# Altium integrated library Microchip PIC16 Part 2.IntLib: 1569 symbols (part 9 of 56)
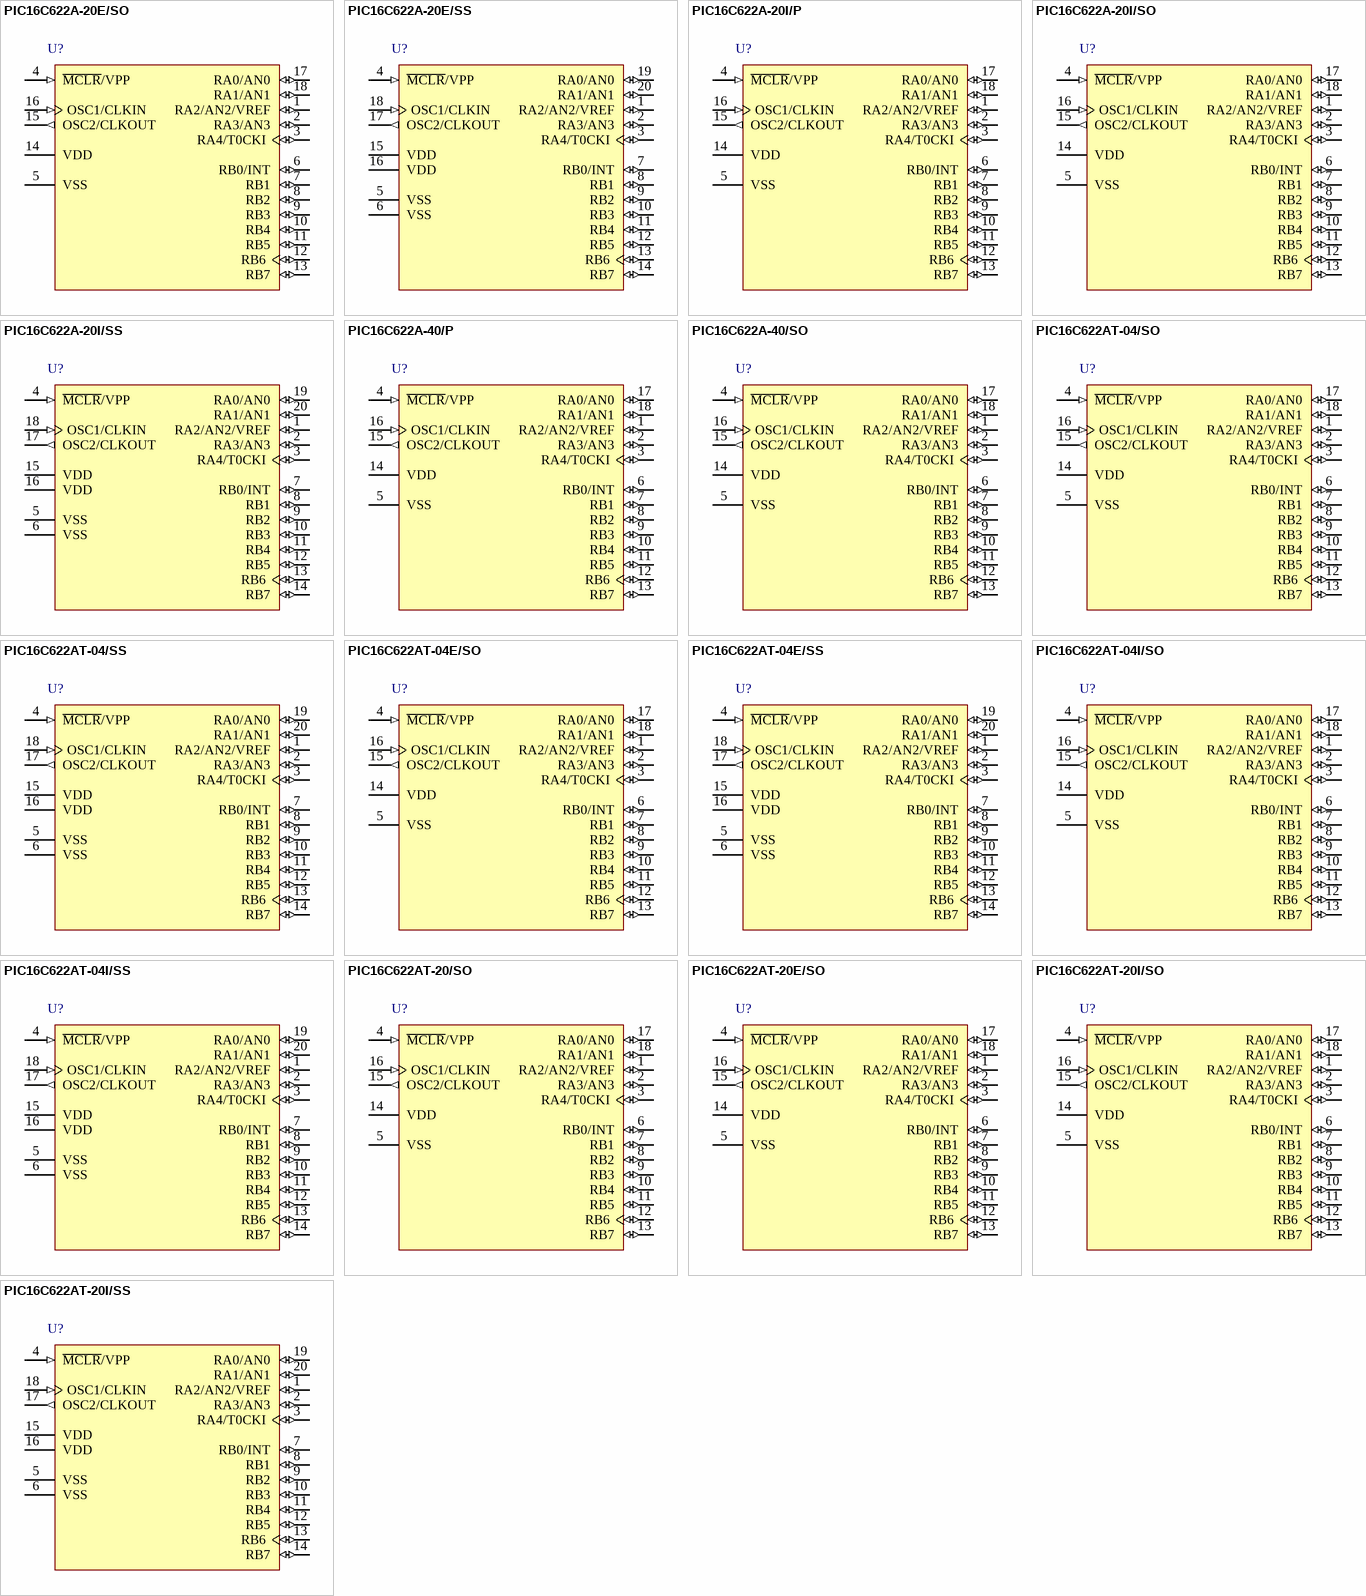
[diagram p133: symbols PIC16C622A-20E/SO to PIC16C622AT-20I/SS]

## PIC16C622AT-04I/SO
designator U?
EPROM-Based 8-Bit CMOS Microcontroller, 128 Bytes RAM, 13 I/O pins, 18-Pin SOIC, 3.0 to 5.5V Supply Range, Industrial Temperature, Tape and Reel; Manufacturer: Microchip; PartNumber: PIC16C622AT-04I/SO; DatasheetVersion: revJ, May-2003; PackageVersion: revBB, Aug-2009; PackageReference: SOIC-SO18; PackageDescription: 18-Lead Plastic Small Outline (SO) - Wide 7.50mm Body [SOIC]; Supplier 1: Digi-Key; Supplier Part Number 1: PIC16C622AT-04ISO-ND; Supplier 2: Mouser; Supplier Part Number 2: 579-16C622AT-04I/SO; Code_JEDEC: MS-013; ComponentLink1Description: Manufacturer URL; ComponentLink1URL: http://www.microchip.com/; ComponentLink2Description: Datasheet; ComponentLink2URL: http://ww1.microchip.com/downloads/en/DeviceDoc/30235j.pdf; ComponentLink3Description: Package Specification; ComponentLink3URL: http://www.microchip.com/stellent/groups/techpub_sg/documents/packagingspec/en012702.pdf
footprint SOIC-SO18_N (SOIC, 18-Leads, Body 11.5x7.5mm, Pitch 1.27mm, IPC Medium Density)
footprint SOIC-SO18_L (SOIC, 18-Leads, Body 11.5x7.5mm, Pitch 1.27mm, IPC High Density)
footprint SOIC-SO18_M (SOIC, 18-Leads, Body 11.5x7.5mm, Pitch 1.27mm, IPC Low Density)
pins: 1 RA2/AN2/VREF (io), 2 RA3/AN3 (io), 3 RA4/T0CKI (io), 4 ~{MCLR}/VPP (in), 5 VSS (power), 6 RB0/INT (io), 7 RB1 (io), 8 RB2 (io), 9 RB3 (io), 10 RB4 (io), 11 RB5 (io), 12 RB6 (io), 13 RB7 (io), 14 VDD (power), 15 OSC2/CLKOUT (out), 16 OSC1/CLKIN (in), 17 RA0/AN0 (io), 18 RA1/AN1 (io)

## PIC16C622AT-04I/SS
designator U?
EPROM-Based 8-Bit CMOS Microcontroller, 128 Bytes RAM, 13 I/O pins, 20-Pin SSOP, 3.0 to 5.5V Supply Range, Industrial Temperature, Tape and Reel; Manufacturer: Microchip; PartNumber: PIC16C622AT-04I/SS; DatasheetVersion: revJ, May-2003; PackageVersion: revBB, Aug-2009; PackageReference: SSOP-SS20; PackageDescription: 20-Lead Plastic Shrink Small Outline (SS) - 5.3mm Body [SSOP]; Supplier 1: Digi-Key; Supplier Part Number 1: PIC16C622AT-04ISS-ND; Supplier 2: Mouser; Supplier Part Number 2: 579-16C622AT-04I/SS; Code_JEDEC: MO-150; ComponentLink1Description: Manufacturer URL; ComponentLink1URL: http://www.microchip.com/; ComponentLink2Description: Datasheet; ComponentLink2URL: http://ww1.microchip.com/downloads/en/DeviceDoc/30235j.pdf; ComponentLink3Description: Package Specification; ComponentLink3URL: http://www.microchip.com/stellent/groups/techpub_sg/documents/packagingspec/en012702.pdf
footprint SSOP-SS20_N (SOP, 20-Leads, Body 7.2x5.2mm, Pitch 0.65mm, IPC Medium Density)
footprint SSOP-SS20_L (SOP, 20-Leads, Body 7.2x5.2mm, Pitch 0.65mm, IPC High Density)
footprint SSOP-SS20_M (SOP, 20-Leads, Body 7.2x5.2mm, Pitch 0.65mm, IPC Low Density)
pins: 1 RA2/AN2/VREF (io), 2 RA3/AN3 (io), 3 RA4/T0CKI (io), 4 ~{MCLR}/VPP (in), 5 VSS (power), 6 VSS (power), 7 RB0/INT (io), 8 RB1 (io), 9 RB2 (io), 10 RB3 (io), 11 RB4 (io), 12 RB5 (io), 13 RB6 (io), 14 RB7 (io), 15 VDD (power), 16 VDD (power), 17 OSC2/CLKOUT (out), 18 OSC1/CLKIN (in), 19 RA0/AN0 (io), 20 RA1/AN1 (io)

## PIC16C622AT-20/SO
designator U?
EPROM-Based 8-Bit CMOS Microcontroller, 128 Bytes RAM, 13 I/O pins, 18-Pin SOIC, 4.5 to 5.5V Supply Range, Commercial Temperature, Tape and Reel; Manufacturer: Microchip; PartNumber: PIC16C622AT-20/SO; DatasheetVersion: revJ, May-2003; PackageVersion: revBB, Aug-2009; PackageReference: SOIC-SO18; PackageDescription: 18-Lead Plastic Small Outline (SO) - Wide 7.50mm Body [SOIC]; Supplier 1: Digi-Key; Supplier Part Number 1: PIC16C622AT-20/SO-ND; Supplier 2: Mouser; Supplier Part Number 2: 579-16C622AT-20/SO; Code_JEDEC: MS-013; ComponentLink1Description: Manufacturer URL; ComponentLink1URL: http://www.microchip.com/; ComponentLink2Description: Datasheet; ComponentLink2URL: http://ww1.microchip.com/downloads/en/DeviceDoc/30235j.pdf; ComponentLink3Description: Package Specification; ComponentLink3URL: http://www.microchip.com/stellent/groups/techpub_sg/documents/packagingspec/en012702.pdf
footprint SOIC-SO18_N (SOIC, 18-Leads, Body 11.5x7.5mm, Pitch 1.27mm, IPC Medium Density)
footprint SOIC-SO18_L (SOIC, 18-Leads, Body 11.5x7.5mm, Pitch 1.27mm, IPC High Density)
footprint SOIC-SO18_M (SOIC, 18-Leads, Body 11.5x7.5mm, Pitch 1.27mm, IPC Low Density)
pins: 1 RA2/AN2/VREF (io), 2 RA3/AN3 (io), 3 RA4/T0CKI (io), 4 ~{MCLR}/VPP (in), 5 VSS (power), 6 RB0/INT (io), 7 RB1 (io), 8 RB2 (io), 9 RB3 (io), 10 RB4 (io), 11 RB5 (io), 12 RB6 (io), 13 RB7 (io), 14 VDD (power), 15 OSC2/CLKOUT (out), 16 OSC1/CLKIN (in), 17 RA0/AN0 (io), 18 RA1/AN1 (io)

## PIC16C622AT-20E/SO
designator U?
EPROM-Based 8-Bit CMOS Microcontroller, 128 Bytes RAM, 13 I/O pins, 18-Pin SOIC, 4.5 to 5.5V Supply Range, Extended Temperature, Tape and Reel; Manufacturer: Microchip; PartNumber: PIC16C622AT-20E/SO; DatasheetVersion: revJ, May-2003; PackageVersion: revBB, Aug-2009; PackageReference: SOIC-SO18; PackageDescription: 18-Lead Plastic Small Outline (SO) - Wide 7.50mm Body [SOIC]; Supplier 1: Digi-Key; Supplier Part Number 1: PIC16C622AT-20ESO-ND; Supplier 2: Mouser; Supplier Part Number 2: 579-16C622AT-20E/SO; Code_JEDEC: MS-013; ComponentLink1Description: Manufacturer URL; ComponentLink1URL: http://www.microchip.com/; ComponentLink2Description: Datasheet; ComponentLink2URL: http://ww1.microchip.com/downloads/en/DeviceDoc/30235j.pdf; ComponentLink3Description: Package Specification; ComponentLink3URL: http://www.microchip.com/stellent/groups/techpub_sg/documents/packagingspec/en012702.pdf
footprint SOIC-SO18_N (SOIC, 18-Leads, Body 11.5x7.5mm, Pitch 1.27mm, IPC Medium Density)
footprint SOIC-SO18_L (SOIC, 18-Leads, Body 11.5x7.5mm, Pitch 1.27mm, IPC High Density)
footprint SOIC-SO18_M (SOIC, 18-Leads, Body 11.5x7.5mm, Pitch 1.27mm, IPC Low Density)
pins: 1 RA2/AN2/VREF (io), 2 RA3/AN3 (io), 3 RA4/T0CKI (io), 4 ~{MCLR}/VPP (in), 5 VSS (power), 6 RB0/INT (io), 7 RB1 (io), 8 RB2 (io), 9 RB3 (io), 10 RB4 (io), 11 RB5 (io), 12 RB6 (io), 13 RB7 (io), 14 VDD (power), 15 OSC2/CLKOUT (out), 16 OSC1/CLKIN (in), 17 RA0/AN0 (io), 18 RA1/AN1 (io)

## PIC16C622AT-20I/SO
designator U?
EPROM-Based 8-Bit CMOS Microcontroller, 128 Bytes RAM, 13 I/O pins, 18-Pin SOIC, 4.5 to 5.5V Supply Range, Industrial Temperature, Tape and Reel; Manufacturer: Microchip; PartNumber: PIC16C622AT-20I/SO; DatasheetVersion: revJ, May-2003; PackageVersion: revBB, Aug-2009; PackageReference: SOIC-SO18; PackageDescription: 18-Lead Plastic Small Outline (SO) - Wide 7.50mm Body [SOIC]; Supplier 1: Digi-Key; Supplier Part Number 1: PIC16C622AT-20ISO-ND; Supplier 2: Mouser; Supplier Part Number 2: 579-16C622AT-20I/SO; Code_JEDEC: MS-013; ComponentLink1Description: Manufacturer URL; ComponentLink1URL: http://www.microchip.com/; ComponentLink2Description: Datasheet; ComponentLink2URL: http://ww1.microchip.com/downloads/en/DeviceDoc/30235j.pdf; ComponentLink3Description: Package Specification; ComponentLink3URL: http://www.microchip.com/stellent/groups/techpub_sg/documents/packagingspec/en012702.pdf
footprint SOIC-SO18_N (SOIC, 18-Leads, Body 11.5x7.5mm, Pitch 1.27mm, IPC Medium Density)
footprint SOIC-SO18_L (SOIC, 18-Leads, Body 11.5x7.5mm, Pitch 1.27mm, IPC High Density)
footprint SOIC-SO18_M (SOIC, 18-Leads, Body 11.5x7.5mm, Pitch 1.27mm, IPC Low Density)
pins: 1 RA2/AN2/VREF (io), 2 RA3/AN3 (io), 3 RA4/T0CKI (io), 4 ~{MCLR}/VPP (in), 5 VSS (power), 6 RB0/INT (io), 7 RB1 (io), 8 RB2 (io), 9 RB3 (io), 10 RB4 (io), 11 RB5 (io), 12 RB6 (io), 13 RB7 (io), 14 VDD (power), 15 OSC2/CLKOUT (out), 16 OSC1/CLKIN (in), 17 RA0/AN0 (io), 18 RA1/AN1 (io)

## PIC16C622AT-20I/SS
designator U?
EPROM-Based 8-Bit CMOS Microcontroller, 128 Bytes RAM, 13 I/O pins, 20-Pin SSOP, 4.5 to 5.5V Supply Range, Industrial Temperature, Tape and Reel; Manufacturer: Microchip; PartNumber: PIC16C622AT-20I/SS; DatasheetVersion: revJ, May-2003; PackageVersion: revBB, Aug-2009; PackageReference: SSOP-SS20; PackageDescription: 20-Lead Plastic Shrink Small Outline (SS) - 5.3mm Body [SSOP]; Supplier 1: Digi-Key; Supplier Part Number 1: PIC16C622AT-20ISS-ND; Supplier 2: Mouser; Supplier Part Number 2: 579-16C622AT-20I/SS; Code_JEDEC: MO-150; ComponentLink1Description: Manufacturer URL; ComponentLink1URL: http://www.microchip.com/; ComponentLink2Description: Datasheet; ComponentLink2URL: http://ww1.microchip.com/downloads/en/DeviceDoc/30235j.pdf; ComponentLink3Description: Package Specification; ComponentLink3URL: http://www.microchip.com/stellent/groups/techpub_sg/documents/packagingspec/en012702.pdf
footprint SSOP-SS20_N (SOP, 20-Leads, Body 7.2x5.2mm, Pitch 0.65mm, IPC Medium Density)
footprint SSOP-SS20_L (SOP, 20-Leads, Body 7.2x5.2mm, Pitch 0.65mm, IPC High Density)
footprint SSOP-SS20_M (SOP, 20-Leads, Body 7.2x5.2mm, Pitch 0.65mm, IPC Low Density)
pins: 1 RA2/AN2/VREF (io), 2 RA3/AN3 (io), 3 RA4/T0CKI (io), 4 ~{MCLR}/VPP (in), 5 VSS (power), 6 VSS (power), 7 RB0/INT (io), 8 RB1 (io), 9 RB2 (io), 10 RB3 (io), 11 RB4 (io), 12 RB5 (io), 13 RB6 (io), 14 RB7 (io), 15 VDD (power), 16 VDD (power), 17 OSC2/CLKOUT (out), 18 OSC1/CLKIN (in), 19 RA0/AN0 (io), 20 RA1/AN1 (io)

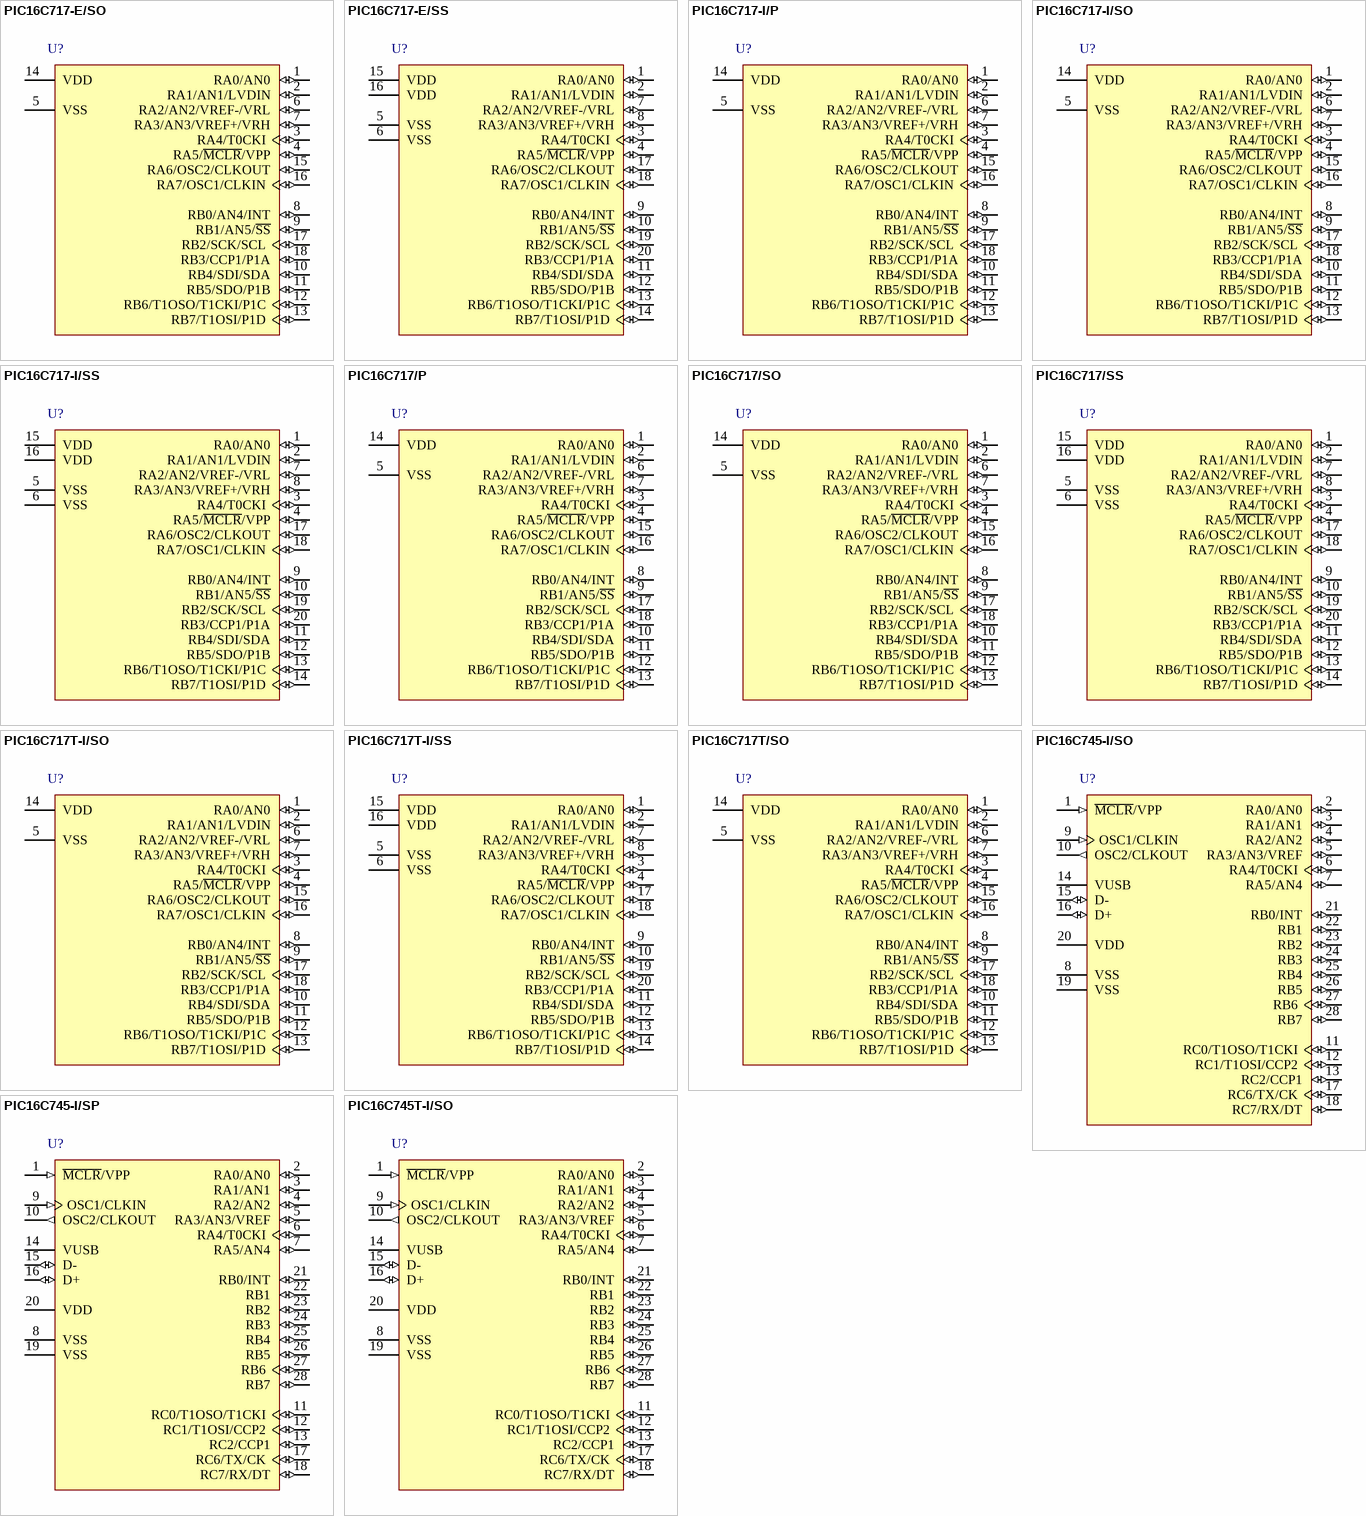
[diagram p16: symbols PIC16C717-E/SO to PIC16C745T-I/SO]

## PIC16C717-E/SO
designator U?
8-Bit CMOS Microcontroller with 10-Bit A/D, 2K (x14-Bit words) EPROM, 256 Bytes RAM, 18-Pin SOIC, 4.0 to 5.5V Supply Range, Extended Temperature; Manufacturer: Microchip; PartNumber: PIC16C717-E/SO; Note: VSS pins (5 and 6) must be tied together.; Note: VDD pins (15 and 16) must be tied together.; DatasheetVersion: revB, Feb-2002; PackageVersion: revBB, Aug-2009; PackageReference: SOIC-SO18; PackageDescription: 18-Lead Plastic Small Outline (SO) - Wide 7.50mm Body [SOIC]; Supplier 1: Digi-Key; Supplier Part Number 1: PIC16C717-E/SO-ND; Supplier 2: Mouser; Supplier Part Number 2: 579-PIC16C717-E/SO; Code_JEDEC: MS-013; ComponentLink1Description: Manufacturer URL; ComponentLink1URL: http://www.microchip.com/; ComponentLink2Description: Datasheet; ComponentLink2URL: http://ww1.microchip.com/downloads/en/DeviceDoc/41120b.pdf; ComponentLink3Description: Package Specification; ComponentLink3URL: http://www.microchip.com/stellent/groups/techpub_sg/documents/packagingspec/en012702.pdf
footprint SOIC-SO18_N (SOIC, 18-Leads, Body 11.5x7.5mm, Pitch 1.27mm, IPC Medium Density)
footprint SOIC-SO18_L (SOIC, 18-Leads, Body 11.5x7.5mm, Pitch 1.27mm, IPC High Density)
footprint SOIC-SO18_M (SOIC, 18-Leads, Body 11.5x7.5mm, Pitch 1.27mm, IPC Low Density)
pins: 1 RA0/AN0 (io), 2 RA1/AN1/LVDIN (io), 3 RA4/T0CKI (io), 4 RA5/~{MCLR}/VPP (io), 5 VSS (power), 6 RA2/AN2/VREF-/VRL (io), 7 RA3/AN3/VREF+/VRH (io), 8 RB0/AN4/INT (io), 9 RB1/AN5/~{SS} (io), 10 RB4/SDI/SDA (io), 11 RB5/SDO/P1B (io), 12 RB6/T1OSO/T1CKI/P1C (io), 13 RB7/T1OSI/P1D (io), 14 VDD (power), 15 RA6/OSC2/CLKOUT (io), 16 RA7/OSC1/CLKIN (io), 17 RB2/SCK/SCL (io), 18 RB3/CCP1/P1A (io)

## PIC16C717-E/SS
designator U?
8-Bit CMOS Microcontroller with 10-Bit A/D, 2K (x14-Bit words) EPROM, 256 Bytes RAM, 20-Pin SSOP, 4.0 to 5.5V Supply Range, Extended Temperature; Manufacturer: Microchip; PartNumber: PIC16C717-E/SS; DatasheetVersion: revB, Feb-2002; PackageVersion: revBB, Aug-2009; PackageReference: SSOP-SS20; PackageDescription: 20-Lead Plastic Shrink Small Outline (SS) - 5.3mm Body [SSOP]; Supplier 1: Digi-Key; Supplier Part Number 1: PIC16C717-E/SS-ND; Supplier 2: Mouser; Supplier Part Number 2: 579-PIC16C717-E/SS; Code_JEDEC: MO-150; ComponentLink1Description: Manufacturer URL; ComponentLink1URL: http://www.microchip.com/; ComponentLink2Description: Datasheet; ComponentLink2URL: http://ww1.microchip.com/downloads/en/DeviceDoc/41120b.pdf; ComponentLink3Description: Package Specification; ComponentLink3URL: http://www.microchip.com/stellent/groups/techpub_sg/documents/packagingspec/en012702.pdf
footprint SSOP-SS20_N (SOP, 20-Leads, Body 7.2x5.2mm, Pitch 0.65mm, IPC Medium Density)
footprint SSOP-SS20_L (SOP, 20-Leads, Body 7.2x5.2mm, Pitch 0.65mm, IPC High Density)
footprint SSOP-SS20_M (SOP, 20-Leads, Body 7.2x5.2mm, Pitch 0.65mm, IPC Low Density)
pins: 1 RA0/AN0 (io), 2 RA1/AN1/LVDIN (io), 3 RA4/T0CKI (io), 4 RA5/~{MCLR}/VPP (io), 5 VSS (power), 6 VSS (power), 7 RA2/AN2/VREF-/VRL (io), 8 RA3/AN3/VREF+/VRH (io), 9 RB0/AN4/INT (io), 10 RB1/AN5/~{SS} (io), 11 RB4/SDI/SDA (io), 12 RB5/SDO/P1B (io), 13 RB6/T1OSO/T1CKI/P1C (io), 14 RB7/T1OSI/P1D (io), 15 VDD (power), 16 VDD (power), 17 RA6/OSC2/CLKOUT (io), 18 RA7/OSC1/CLKIN (io), 19 RB2/SCK/SCL (io), 20 RB3/CCP1/P1A (io)

## PIC16C717-I/P
designator U?
8-Bit CMOS Microcontroller with 10-Bit A/D, 2K (x14-Bit words) EPROM, 256 Bytes RAM, 18-Pin PDIP, 4.0 to 5.5V Supply Range, Industrial Temperature; Manufacturer: Microchip; PartNumber: PIC16C717-I/P; DatasheetVersion: revB, Feb-2002; PackageVersion: revBB, Aug-2009; PackageReference: PDIP300-P18; PackageDescription: 18-Lead Plastic Dual In-Line (P) - 300 mil Body [PDIP]; Supplier 1: Digi-Key; Supplier Part Number 1: PIC16C717-I/P-ND; Supplier 2: Farnell; Supplier Part Number 2: 1137321; Supplier 3: Newark; Supplier Part Number 3: 24M5879; Supplier 4: Mouser; Supplier Part Number 4: 579-PIC16C717-I/P; Code_JEDEC: MS-001; ComponentLink1Description: Manufacturer URL; ComponentLink1URL: http://www.microchip.com/; ComponentLink2Description: Datasheet; ComponentLink2URL: http://ww1.microchip.com/downloads/en/DeviceDoc/41120b.pdf; ComponentLink3Description: Package Specification; ComponentLink3URL: http://www.microchip.com/stellent/groups/techpub_sg/documents/packagingspec/en012702.pdf
footprint PDIP300-P18 (DIP, 18-Leads, Row Spacing 7.62mm, Pitch 2.54mm, Body 22.9x6.6mm)
pins: 1 RA0/AN0 (io), 2 RA1/AN1/LVDIN (io), 3 RA4/T0CKI (io), 4 RA5/~{MCLR}/VPP (io), 5 VSS (power), 6 RA2/AN2/VREF-/VRL (io), 7 RA3/AN3/VREF+/VRH (io), 8 RB0/AN4/INT (io), 9 RB1/AN5/~{SS} (io), 10 RB4/SDI/SDA (io), 11 RB5/SDO/P1B (io), 12 RB6/T1OSO/T1CKI/P1C (io), 13 RB7/T1OSI/P1D (io), 14 VDD (power), 15 RA6/OSC2/CLKOUT (io), 16 RA7/OSC1/CLKIN (io), 17 RB2/SCK/SCL (io), 18 RB3/CCP1/P1A (io)

## PIC16C717-I/SO
designator U?
8-Bit CMOS Microcontroller with 10-Bit A/D, 2K (x14-Bit words) EPROM, 256 Bytes RAM, 18-Pin SOIC, 4.0 to 5.5V Supply Range, Industrial Temperature; Manufacturer: Microchip; PartNumber: PIC16C717-I/SO; Note: VSS pins (5 and 6) must be tied together.; Note: VDD pins (15 and 16) must be tied together.; DatasheetVersion: revB, Feb-2002; PackageVersion: revBB, Aug-2009; PackageReference: SOIC-SO18; PackageDescription: 18-Lead Plastic Small Outline (SO) - Wide 7.50mm Body [SOIC]; Supplier 1: Digi-Key; Supplier Part Number 1: PIC16C717-I/SO-ND; Supplier 2: Farnell; Supplier Part Number 2: 9759883; Supplier 3: Newark; Supplier Part Number 3: 97K7275; Supplier 4: Newark; Supplier Part Number 4: 19C7265; Supplier 5: Mouser; Supplier Part Number 5: 579-PIC16C717-I/SO; Code_JEDEC: MS-013; ComponentLink1Description: Manufacturer URL; ComponentLink1URL: http://www.microchip.com/; ComponentLink2Description: Datasheet; ComponentLink2URL: http://ww1.microchip.com/downloads/en/DeviceDoc/41120b.pdf; ComponentLink3Description: Package Specification; ComponentLink3URL: http://www.microchip.com/stellent/groups/techpub_sg/documents/packagingspec/en012702.pdf
footprint SOIC-SO18_N (SOIC, 18-Leads, Body 11.5x7.5mm, Pitch 1.27mm, IPC Medium Density)
footprint SOIC-SO18_L (SOIC, 18-Leads, Body 11.5x7.5mm, Pitch 1.27mm, IPC High Density)
footprint SOIC-SO18_M (SOIC, 18-Leads, Body 11.5x7.5mm, Pitch 1.27mm, IPC Low Density)
pins: 1 RA0/AN0 (io), 2 RA1/AN1/LVDIN (io), 3 RA4/T0CKI (io), 4 RA5/~{MCLR}/VPP (io), 5 VSS (power), 6 RA2/AN2/VREF-/VRL (io), 7 RA3/AN3/VREF+/VRH (io), 8 RB0/AN4/INT (io), 9 RB1/AN5/~{SS} (io), 10 RB4/SDI/SDA (io), 11 RB5/SDO/P1B (io), 12 RB6/T1OSO/T1CKI/P1C (io), 13 RB7/T1OSI/P1D (io), 14 VDD (power), 15 RA6/OSC2/CLKOUT (io), 16 RA7/OSC1/CLKIN (io), 17 RB2/SCK/SCL (io), 18 RB3/CCP1/P1A (io)

## PIC16C717-I/SS
designator U?
8-Bit CMOS Microcontroller with 10-Bit A/D, 2K (x14-Bit words) EPROM, 256 Bytes RAM, 20-Pin SSOP, 4.0 to 5.5V Supply Range, Industrial Temperature; Manufacturer: Microchip; PartNumber: PIC16C717-I/SS; DatasheetVersion: revB, Feb-2002; PackageVersion: revBB, Aug-2009; PackageReference: SSOP-SS20; PackageDescription: 20-Lead Plastic Shrink Small Outline (SS) - 5.3mm Body [SSOP]; Supplier 1: Digi-Key; Supplier Part Number 1: PIC16C717-I/SS-ND; Supplier 2: Newark; Supplier Part Number 2: 96K3835; Supplier 3: Mouser; Supplier Part Number 3: 579-PIC16C717ISS; Code_JEDEC: MO-150; ComponentLink1Description: Manufacturer URL; ComponentLink1URL: http://www.microchip.com/; ComponentLink2Description: Datasheet; ComponentLink2URL: http://ww1.microchip.com/downloads/en/DeviceDoc/41120b.pdf; ComponentLink3Description: Package Specification; ComponentLink3URL: http://www.microchip.com/stellent/groups/techpub_sg/documents/packagingspec/en012702.pdf
footprint SSOP-SS20_N (SOP, 20-Leads, Body 7.2x5.2mm, Pitch 0.65mm, IPC Medium Density)
footprint SSOP-SS20_L (SOP, 20-Leads, Body 7.2x5.2mm, Pitch 0.65mm, IPC High Density)
footprint SSOP-SS20_M (SOP, 20-Leads, Body 7.2x5.2mm, Pitch 0.65mm, IPC Low Density)
pins: 1 RA0/AN0 (io), 2 RA1/AN1/LVDIN (io), 3 RA4/T0CKI (io), 4 RA5/~{MCLR}/VPP (io), 5 VSS (power), 6 VSS (power), 7 RA2/AN2/VREF-/VRL (io), 8 RA3/AN3/VREF+/VRH (io), 9 RB0/AN4/INT (io), 10 RB1/AN5/~{SS} (io), 11 RB4/SDI/SDA (io), 12 RB5/SDO/P1B (io), 13 RB6/T1OSO/T1CKI/P1C (io), 14 RB7/T1OSI/P1D (io), 15 VDD (power), 16 VDD (power), 17 RA6/OSC2/CLKOUT (io), 18 RA7/OSC1/CLKIN (io), 19 RB2/SCK/SCL (io), 20 RB3/CCP1/P1A (io)

## PIC16C717/P
designator U?
8-Bit CMOS Microcontroller with 10-Bit A/D, 2K (x14-Bit words) EPROM, 256 Bytes RAM, 18-Pin PDIP, 4.0 to 5.5V Supply Range, Commercial Temperature; Manufacturer: Microchip; PartNumber: PIC16C717/P; DatasheetVersion: revB, Feb-2002; PackageVersion: revBB, Aug-2009; PackageReference: PDIP300-P18; PackageDescription: 18-Lead Plastic Dual In-Line (P) - 300 mil Body [PDIP]; Supplier 1: Digi-Key; Supplier Part Number 1: PIC16C717/P-ND; Supplier 2: Farnell; Supplier Part Number 2: 1084291; Supplier 3: Newark; Supplier Part Number 3: 97K7276; Supplier 4: Newark; Supplier Part Number 4: 31C8008; Supplier 5: Mouser; Supplier Part Number 5: 579-PIC16C717/P; Code_JEDEC: MS-001; ComponentLink1Description: Manufacturer URL; ComponentLink1URL: http://www.microchip.com/; ComponentLink2Description: Datasheet; ComponentLink2URL: http://ww1.microchip.com/downloads/en/DeviceDoc/41120b.pdf; ComponentLink3Description: Package Specification; ComponentLink3URL: http://www.microchip.com/stellent/groups/techpub_sg/documents/packagingspec/en012702.pdf
footprint PDIP300-P18 (DIP, 18-Leads, Row Spacing 7.62mm, Pitch 2.54mm, Body 22.9x6.6mm)
pins: 1 RA0/AN0 (io), 2 RA1/AN1/LVDIN (io), 3 RA4/T0CKI (io), 4 RA5/~{MCLR}/VPP (io), 5 VSS (power), 6 RA2/AN2/VREF-/VRL (io), 7 RA3/AN3/VREF+/VRH (io), 8 RB0/AN4/INT (io), 9 RB1/AN5/~{SS} (io), 10 RB4/SDI/SDA (io), 11 RB5/SDO/P1B (io), 12 RB6/T1OSO/T1CKI/P1C (io), 13 RB7/T1OSI/P1D (io), 14 VDD (power), 15 RA6/OSC2/CLKOUT (io), 16 RA7/OSC1/CLKIN (io), 17 RB2/SCK/SCL (io), 18 RB3/CCP1/P1A (io)

## PIC16C717/SO
designator U?
8-Bit CMOS Microcontroller with 10-Bit A/D, 2K (x14-Bit words) EPROM, 256 Bytes RAM, 18-Pin SOIC, 4.0 to 5.5V Supply Range, Commercial Temperature; Manufacturer: Microchip; PartNumber: PIC16C717/SO; Note: VSS pins (5 and 6) must be tied together.; Note: VDD pins (15 and 16) must be tied together.; DatasheetVersion: revB, Feb-2002; PackageVersion: revBB, Aug-2009; PackageReference: SOIC-SO18; PackageDescription: 18-Lead Plastic Small Outline (SO) - Wide 7.50mm Body [SOIC]; Supplier 1: Digi-Key; Supplier Part Number 1: PIC16C717/SO-ND; Supplier 2: Farnell; Supplier Part Number 2: 1137320; Supplier 3: Newark; Supplier Part Number 3: 96K3837; Supplier 4: Mouser; Supplier Part Number 4: 579-PIC16C717/SO; Code_JEDEC: MS-013; ComponentLink1Description: Manufacturer URL; ComponentLink1URL: http://www.microchip.com/; ComponentLink2Description: Datasheet; ComponentLink2URL: http://ww1.microchip.com/downloads/en/DeviceDoc/41120b.pdf; ComponentLink3Description: Package Specification; ComponentLink3URL: http://www.microchip.com/stellent/groups/techpub_sg/documents/packagingspec/en012702.pdf
footprint SOIC-SO18_N (SOIC, 18-Leads, Body 11.5x7.5mm, Pitch 1.27mm, IPC Medium Density)
footprint SOIC-SO18_L (SOIC, 18-Leads, Body 11.5x7.5mm, Pitch 1.27mm, IPC High Density)
footprint SOIC-SO18_M (SOIC, 18-Leads, Body 11.5x7.5mm, Pitch 1.27mm, IPC Low Density)
pins: 1 RA0/AN0 (io), 2 RA1/AN1/LVDIN (io), 3 RA4/T0CKI (io), 4 RA5/~{MCLR}/VPP (io), 5 VSS (power), 6 RA2/AN2/VREF-/VRL (io), 7 RA3/AN3/VREF+/VRH (io), 8 RB0/AN4/INT (io), 9 RB1/AN5/~{SS} (io), 10 RB4/SDI/SDA (io), 11 RB5/SDO/P1B (io), 12 RB6/T1OSO/T1CKI/P1C (io), 13 RB7/T1OSI/P1D (io), 14 VDD (power), 15 RA6/OSC2/CLKOUT (io), 16 RA7/OSC1/CLKIN (io), 17 RB2/SCK/SCL (io), 18 RB3/CCP1/P1A (io)

## PIC16C717/SS
designator U?
8-Bit CMOS Microcontroller with 10-Bit A/D, 2K (x14-Bit words) EPROM, 256 Bytes RAM, 20-Pin SSOP, 4.0 to 5.5V Supply Range, Commercial Temperature; Manufacturer: Microchip; PartNumber: PIC16C717/SS; DatasheetVersion: revB, Feb-2002; PackageVersion: revBB, Aug-2009; PackageReference: SSOP-SS20; PackageDescription: 20-Lead Plastic Shrink Small Outline (SS) - 5.3mm Body [SSOP]; Supplier 1: Digi-Key; Supplier Part Number 1: PIC16C717/SS-ND; Supplier 2: Mouser; Supplier Part Number 2: 579-PIC16C717/SS; Code_JEDEC: MO-150; ComponentLink1Description: Manufacturer URL; ComponentLink1URL: http://www.microchip.com/; ComponentLink2Description: Datasheet; ComponentLink2URL: http://ww1.microchip.com/downloads/en/DeviceDoc/41120b.pdf; ComponentLink3Description: Package Specification; ComponentLink3URL: http://www.microchip.com/stellent/groups/techpub_sg/documents/packagingspec/en012702.pdf
footprint SSOP-SS20_N (SOP, 20-Leads, Body 7.2x5.2mm, Pitch 0.65mm, IPC Medium Density)
footprint SSOP-SS20_L (SOP, 20-Leads, Body 7.2x5.2mm, Pitch 0.65mm, IPC High Density)
footprint SSOP-SS20_M (SOP, 20-Leads, Body 7.2x5.2mm, Pitch 0.65mm, IPC Low Density)
pins: 1 RA0/AN0 (io), 2 RA1/AN1/LVDIN (io), 3 RA4/T0CKI (io), 4 RA5/~{MCLR}/VPP (io), 5 VSS (power), 6 VSS (power), 7 RA2/AN2/VREF-/VRL (io), 8 RA3/AN3/VREF+/VRH (io), 9 RB0/AN4/INT (io), 10 RB1/AN5/~{SS} (io), 11 RB4/SDI/SDA (io), 12 RB5/SDO/P1B (io), 13 RB6/T1OSO/T1CKI/P1C (io), 14 RB7/T1OSI/P1D (io), 15 VDD (power), 16 VDD (power), 17 RA6/OSC2/CLKOUT (io), 18 RA7/OSC1/CLKIN (io), 19 RB2/SCK/SCL (io), 20 RB3/CCP1/P1A (io)

## PIC16C717T-I/SO
designator U?
8-Bit CMOS Microcontroller with 10-Bit A/D, 2K (x14-Bit words) EPROM, 256 Bytes RAM, 18-Pin SOIC, 4.0 to 5.5V Supply Range, Industrial Temperature, Tape and Reel; Manufacturer: Microchip; PartNumber: PIC16C717T-I/SO; Note: VSS pins (5 and 6) must be tied together.; Note: VDD pins (15 and 16) must be tied together.; DatasheetVersion: revB, Feb-2002; PackageVersion: revBB, Aug-2009; PackageReference: SOIC-SO18; PackageDescription: 18-Lead Plastic Small Outline (SO) - Wide 7.50mm Body [SOIC]; Supplier 1: Digi-Key; Supplier Part Number 1: PIC16C717T-I/SO-ND; Supplier 2: Mouser; Supplier Part Number 2: 579-PIC16C717T-I/SO; Code_JEDEC: MS-013; ComponentLink1Description: Manufacturer URL; ComponentLink1URL: http://www.microchip.com/; ComponentLink2Description: Datasheet; ComponentLink2URL: http://ww1.microchip.com/downloads/en/DeviceDoc/41120b.pdf; ComponentLink3Description: Package Specification; ComponentLink3URL: http://www.microchip.com/stellent/groups/techpub_sg/documents/packagingspec/en012702.pdf
footprint SOIC-SO18_N (SOIC, 18-Leads, Body 11.5x7.5mm, Pitch 1.27mm, IPC Medium Density)
footprint SOIC-SO18_L (SOIC, 18-Leads, Body 11.5x7.5mm, Pitch 1.27mm, IPC High Density)
footprint SOIC-SO18_M (SOIC, 18-Leads, Body 11.5x7.5mm, Pitch 1.27mm, IPC Low Density)
pins: 1 RA0/AN0 (io), 2 RA1/AN1/LVDIN (io), 3 RA4/T0CKI (io), 4 RA5/~{MCLR}/VPP (io), 5 VSS (power), 6 RA2/AN2/VREF-/VRL (io), 7 RA3/AN3/VREF+/VRH (io), 8 RB0/AN4/INT (io), 9 RB1/AN5/~{SS} (io), 10 RB4/SDI/SDA (io), 11 RB5/SDO/P1B (io), 12 RB6/T1OSO/T1CKI/P1C (io), 13 RB7/T1OSI/P1D (io), 14 VDD (power), 15 RA6/OSC2/CLKOUT (io), 16 RA7/OSC1/CLKIN (io), 17 RB2/SCK/SCL (io), 18 RB3/CCP1/P1A (io)

## PIC16C717T-I/SS
designator U?
8-Bit CMOS Microcontroller with 10-Bit A/D, 2K (x14-Bit words) EPROM, 256 Bytes RAM, 20-Pin SSOP, 4.0 to 5.5V Supply Range, Industrial Temperature, Tape and Reel; Manufacturer: Microchip; PartNumber: PIC16C717T-I/SS; DatasheetVersion: revB, Feb-2002; PackageVersion: revBB, Aug-2009; PackageReference: SSOP-SS20; PackageDescription: 20-Lead Plastic Shrink Small Outline (SS) - 5.3mm Body [SSOP]; Supplier 1: Digi-Key; Supplier Part Number 1: PIC16C717T-I/SS-ND; Supplier 2: Mouser; Supplier Part Number 2: 579-PIC16C717T-I/SS; Code_JEDEC: MO-150; ComponentLink1Description: Manufacturer URL; ComponentLink1URL: http://www.microchip.com/; ComponentLink2Description: Datasheet; ComponentLink2URL: http://ww1.microchip.com/downloads/en/DeviceDoc/41120b.pdf; ComponentLink3Description: Package Specification; ComponentLink3URL: http://www.microchip.com/stellent/groups/techpub_sg/documents/packagingspec/en012702.pdf
footprint SSOP-SS20_N (SOP, 20-Leads, Body 7.2x5.2mm, Pitch 0.65mm, IPC Medium Density)
footprint SSOP-SS20_L (SOP, 20-Leads, Body 7.2x5.2mm, Pitch 0.65mm, IPC High Density)
footprint SSOP-SS20_M (SOP, 20-Leads, Body 7.2x5.2mm, Pitch 0.65mm, IPC Low Density)
pins: 1 RA0/AN0 (io), 2 RA1/AN1/LVDIN (io), 3 RA4/T0CKI (io), 4 RA5/~{MCLR}/VPP (io), 5 VSS (power), 6 VSS (power), 7 RA2/AN2/VREF-/VRL (io), 8 RA3/AN3/VREF+/VRH (io), 9 RB0/AN4/INT (io), 10 RB1/AN5/~{SS} (io), 11 RB4/SDI/SDA (io), 12 RB5/SDO/P1B (io), 13 RB6/T1OSO/T1CKI/P1C (io), 14 RB7/T1OSI/P1D (io), 15 VDD (power), 16 VDD (power), 17 RA6/OSC2/CLKOUT (io), 18 RA7/OSC1/CLKIN (io), 19 RB2/SCK/SCL (io), 20 RB3/CCP1/P1A (io)

## PIC16C717T/SO
designator U?
8-Bit CMOS Microcontroller with 10-Bit A/D, 2K (x14-Bit words) EPROM, 256 Bytes RAM, 18-Pin SOIC, 4.0 to 5.5V Supply Range, Commercial Temperature, Tape and Reel; Manufacturer: Microchip; PartNumber: PIC16C717T/SO; DatasheetVersion: revB, Feb-2002; PackageVersion: revBB, Aug-2009; PackageReference: SOIC-SO18; PackageDescription: 18-Lead Plastic Small Outline (SO) - Wide 7.50mm Body [SOIC]; Supplier 1: Digi-Key; Supplier Part Number 1: PIC16C717T/SO-ND; Supplier 2: Mouser; Supplier Part Number 2: 579-PIC16C717T/SO; Code_JEDEC: MS-013; ComponentLink1Description: Manufacturer URL; ComponentLink1URL: http://www.microchip.com/; ComponentLink2Description: Datasheet; ComponentLink2URL: http://ww1.microchip.com/downloads/en/DeviceDoc/41120b.pdf; ComponentLink3Description: Package Specification; ComponentLink3URL: http://www.microchip.com/stellent/groups/techpub_sg/documents/packagingspec/en012702.pdf
footprint SOIC-SO18_N (SOIC, 18-Leads, Body 11.5x7.5mm, Pitch 1.27mm, IPC Medium Density)
footprint SOIC-SO18_L (SOIC, 18-Leads, Body 11.5x7.5mm, Pitch 1.27mm, IPC High Density)
footprint SOIC-SO18_M (SOIC, 18-Leads, Body 11.5x7.5mm, Pitch 1.27mm, IPC Low Density)
pins: 1 RA0/AN0 (io), 2 RA1/AN1/LVDIN (io), 3 RA4/T0CKI (io), 4 RA5/~{MCLR}/VPP (io), 5 VSS (power), 6 RA2/AN2/VREF-/VRL (io), 7 RA3/AN3/VREF+/VRH (io), 8 RB0/AN4/INT (io), 9 RB1/AN5/~{SS} (io), 10 RB4/SDI/SDA (io), 11 RB5/SDO/P1B (io), 12 RB6/T1OSO/T1CKI/P1C (io), 13 RB7/T1OSI/P1D (io), 14 VDD (power), 15 RA6/OSC2/CLKOUT (io), 16 RA7/OSC1/CLKIN (io), 17 RB2/SCK/SCL (io), 18 RB3/CCP1/P1A (io)

## PIC16C745-I/SO
designator U?
8-Bit CMOS Microcontroller with USB, 8K (x14-Bit words) EPROM, 256 Bytes RAM, 22 I/O Pins, 28-Pin SOIC, 4.35 to 5.25V Supply Range, Industrial Temperature; Manufacturer: Microchip; PartNumber: PIC16C745-I/SO; DatasheetVersion: revC, Mar-2002; PackageVersion: revBB, Aug-2009; PackageReference: SOIC-SO28; PackageDescription: 28-Lead Plastic Small Outline (SO) - Wide 7.50mm Body [SOIC]; Supplier 1: Digi-Key; Supplier Part Number 1: PIC16C745-I/SO-ND; Supplier 2: Farnell; Supplier Part Number 2: 9760024; Supplier 3: Farnell; Supplier Part Number 3: 9760024MPKG; Supplier 4: Newark; Supplier Part Number 4: 69K7629; Supplier 5: Mouser; Supplier Part Number 5: 579-PIC16C745ISO; Code_JEDEC: MS-013; ComponentLink1Description: Manufacturer URL; ComponentLink1URL: http://www.microchip.com/; ComponentLink2Description: Datasheet; ComponentLink2URL: http://ww1.microchip.com/downloads/en/DeviceDoc/41124c.pdf; ComponentLink3Description: Package Specification; ComponentLink3URL: http://www.microchip.com/stellent/groups/techpub_sg/documents/packagingspec/en012702.pdf
footprint SOIC-SO28_N (SOIC, 28-Leads, Body 17.9x7.5mm, Pitch 1.27mm, IPC Medium Density)
footprint SOIC-SO28_L (SOIC, 28-Leads, Body 17.9x7.5mm, Pitch 1.27mm, IPC High Density)
footprint SOIC-SO28_M (SOIC, 28-Leads, Body 17.9x7.5mm, Pitch 1.27mm, IPC Low Density)
pins: 1 ~{MCLR}/VPP (in), 2 RA0/AN0 (io), 3 RA1/AN1 (io), 4 RA2/AN2 (io), 5 RA3/AN3/VREF (io), 6 RA4/T0CKI (io), 7 RA5/AN4 (io), 8 VSS (power), 9 OSC1/CLKIN (in), 10 OSC2/CLKOUT (out), 11 RC0/T1OSO/T1CKI (io), 12 RC1/T1OSI/CCP2 (io), 13 RC2/CCP1 (io), 14 VUSB (power), 15 D- (io), 16 D+ (io), 17 RC6/TX/CK (io), 18 RC7/RX/DT (io), 19 VSS (power), 20 VDD (power), 21 RB0/INT (io), 22 RB1 (io), 23 RB2 (io), 24 RB3 (io), 25 RB4 (io), 26 RB5 (io), 27 RB6 (io), 28 RB7 (io)

## PIC16C745-I/SP
designator U?
8-Bit CMOS Microcontroller with USB, 8K (x14-Bit words) EPROM, 256 Bytes RAM, 22 I/O Pins, 28-Pin PDIP 300 mil, 4.35 to 5.25V Supply Range, Industrial Temperature; Manufacturer: Microchip; PartNumber: PIC16C745-I/SP; DatasheetVersion: revC, Mar-2002; PackageVersion: revBB, Aug-2009; PackageReference: SPDIP300-SP28; PackageDescription: 28-Lead Skinny Plastic Dual In-Line (SP) - 300 mil Body [SPDIP]; Supplier 1: Digi-Key; Supplier Part Number 1: PIC16C745-I/SP-ND; Supplier 2: Farnell; Supplier Part Number 2: 1523932; Supplier 3: Farnell; Supplier Part Number 3: 9760032; Supplier 4: Newark; Supplier Part Number 4: 72K7297; Supplier 5: Mouser; Supplier Part Number 5: 579-PIC16C745ISP; ComponentLink1Description: Manufacturer URL; ComponentLink1URL: http://www.microchip.com/; ComponentLink2Description: Datasheet; ComponentLink2URL: http://ww1.microchip.com/downloads/en/DeviceDoc/41124c.pdf; ComponentLink3Description: Package Specification; ComponentLink3URL: http://www.microchip.com/stellent/groups/techpub_sg/documents/packagingspec/en012702.pdf
footprint SPDIP300-SP28 (DIP, 28-Leads, Row Spacing 7.62mm, Pitch 2.54mm, Body 34.9x6.8mm)
pins: 1 ~{MCLR}/VPP (in), 2 RA0/AN0 (io), 3 RA1/AN1 (io), 4 RA2/AN2 (io), 5 RA3/AN3/VREF (io), 6 RA4/T0CKI (io), 7 RA5/AN4 (io), 8 VSS (power), 9 OSC1/CLKIN (in), 10 OSC2/CLKOUT (out), 11 RC0/T1OSO/T1CKI (io), 12 RC1/T1OSI/CCP2 (io), 13 RC2/CCP1 (io), 14 VUSB (power), 15 D- (io), 16 D+ (io), 17 RC6/TX/CK (io), 18 RC7/RX/DT (io), 19 VSS (power), 20 VDD (power), 21 RB0/INT (io), 22 RB1 (io), 23 RB2 (io), 24 RB3 (io), 25 RB4 (io), 26 RB5 (io), 27 RB6 (io), 28 RB7 (io)

## PIC16C745T-I/SO
designator U?
8-Bit CMOS Microcontroller with USB, 8K (x14-Bit words) EPROM, 256 Bytes RAM, 22 I/O Pins, 28-Pin SOIC, 4.35 to 5.25V Supply Range, Industrial Temperature, Tape and Reel; Manufacturer: Microchip; PartNumber: PIC16C745T-I/SO; DatasheetVersion: revC, Mar-2002; PackageVersion: revBB, Aug-2009; PackageReference: SOIC-SO28; PackageDescription: 28-Lead Plastic Small Outline (SO) - Wide 7.50mm Body [SOIC]; Supplier 1: Digi-Key; Supplier Part Number 1: PIC16C745T-I/SO-ND; Supplier 2: Mouser; Supplier Part Number 2: 579-PIC16C745T-I/SO; Code_JEDEC: MS-013; ComponentLink1Description: Manufacturer URL; ComponentLink1URL: http://www.microchip.com/; ComponentLink2Description: Datasheet; ComponentLink2URL: http://ww1.microchip.com/downloads/en/DeviceDoc/41124c.pdf; ComponentLink3Description: Package Specification; ComponentLink3URL: http://www.microchip.com/stellent/groups/techpub_sg/documents/packagingspec/en012702.pdf
footprint SOIC-SO28_N (SOIC, 28-Leads, Body 17.9x7.5mm, Pitch 1.27mm, IPC Medium Density)
footprint SOIC-SO28_L (SOIC, 28-Leads, Body 17.9x7.5mm, Pitch 1.27mm, IPC High Density)
footprint SOIC-SO28_M (SOIC, 28-Leads, Body 17.9x7.5mm, Pitch 1.27mm, IPC Low Density)
pins: 1 ~{MCLR}/VPP (in), 2 RA0/AN0 (io), 3 RA1/AN1 (io), 4 RA2/AN2 (io), 5 RA3/AN3/VREF (io), 6 RA4/T0CKI (io), 7 RA5/AN4 (io), 8 VSS (power), 9 OSC1/CLKIN (in), 10 OSC2/CLKOUT (out), 11 RC0/T1OSO/T1CKI (io), 12 RC1/T1OSI/CCP2 (io), 13 RC2/CCP1 (io), 14 VUSB (power), 15 D- (io), 16 D+ (io), 17 RC6/TX/CK (io), 18 RC7/RX/DT (io), 19 VSS (power), 20 VDD (power), 21 RB0/INT (io), 22 RB1 (io), 23 RB2 (io), 24 RB3 (io), 25 RB4 (io), 26 RB5 (io), 27 RB6 (io), 28 RB7 (io)

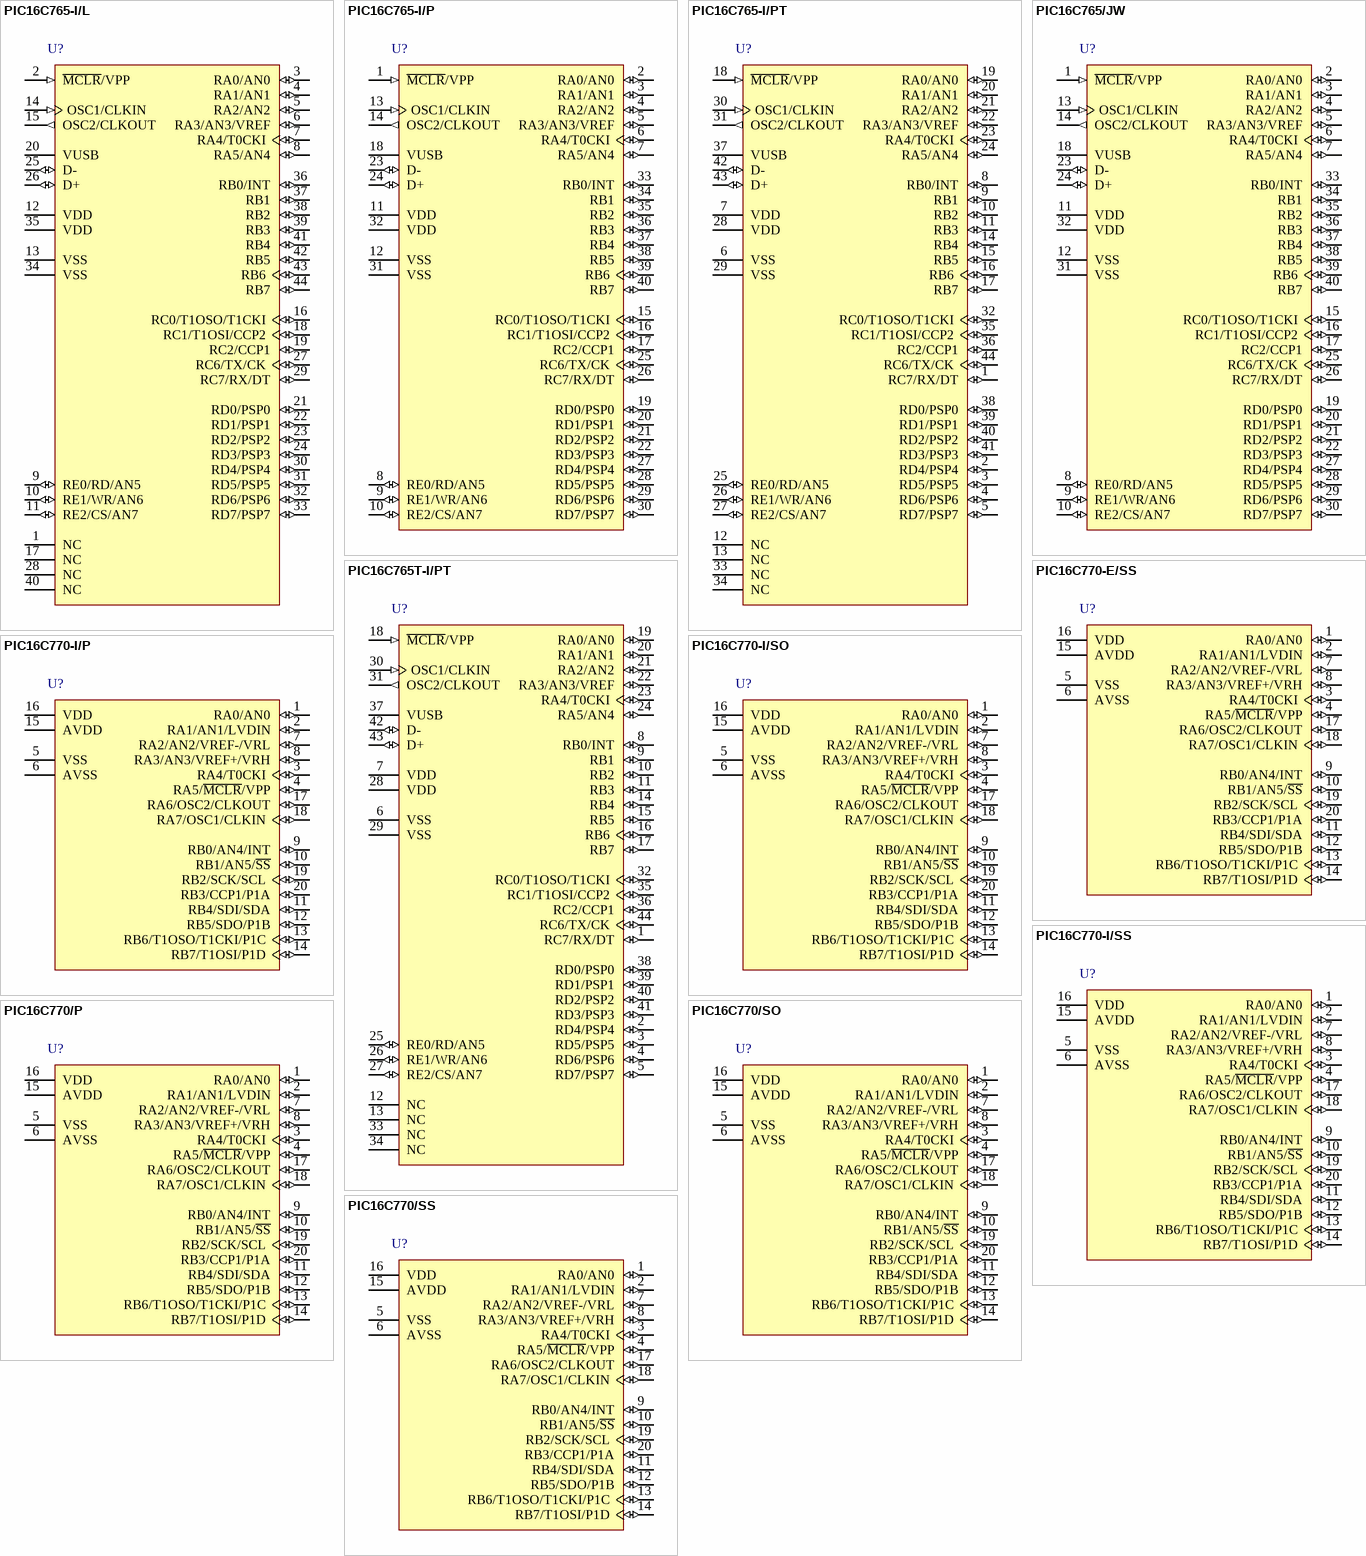
[diagram p17: symbols PIC16C765-I/L to PIC16C770/SS]

## PIC16C765-I/L
designator U?
8-Bit CMOS Microcontroller with USB, 8K (x14-Bit words) EPROM, 256 Bytes RAM, 33 I/O Pins, 44-Pin PLCC, 4.35 to 5.25V Supply Range, Industrial Temperature; Manufacturer: Microchip; PartNumber: PIC16C765-I/L; DatasheetVersion: revC, Mar-2002; PackageVersion: revBB, Aug-2009; PackageReference: PLCC-L44; PackageDescription: 44-Lead Plastic Leaded Chip Carrier (L) - Square [PLCC]; Supplier 1: Digi-Key; Supplier Part Number 1: PIC16C765-I/L-ND; Supplier 2: Newark; Supplier Part Number 2: 96K3851; Supplier 3: Mouser; Supplier Part Number 3: 579-PIC16C765-I/L; Code_JEDEC: MO-047; Code_IPC: PLCC-44; ComponentLink1Description: Manufacturer URL; ComponentLink1URL: http://www.microchip.com/; ComponentLink2Description: Datasheet; ComponentLink2URL: http://ww1.microchip.com/downloads/en/DeviceDoc/41124c.pdf; ComponentLink3Description: Package Specification; ComponentLink3URL: http://www.microchip.com/stellent/groups/techpub_sg/documents/packagingspec/en012702.pdf
footprint PLCC-L44_N (Leaded Chip Carrier, 44-Leads, Body 16.6x16.6mm, Pitch 1.27mm, IPC Medium Density)
footprint PLCC-L44_L (Leaded Chip Carrier, 44-Leads, Body 16.6x16.6mm, Pitch 1.27mm, IPC High Density)
footprint PLCC-L44_M (Leaded Chip Carrier, 44-Leads, Body 16.6x16.6mm, Pitch 1.27mm, IPC Low Density)
pins: 1 NC, 2 ~{MCLR}/VPP (in), 3 RA0/AN0 (io), 4 RA1/AN1 (io), 5 RA2/AN2 (io), 6 RA3/AN3/VREF (io), 7 RA4/T0CKI (io), 8 RA5/AN4 (io), 9 RE0/RD/AN5 (io), 10 RE1/WR/AN6 (io), 11 RE2/CS/AN7 (io), 12 VDD (power), 13 VSS (power), 14 OSC1/CLKIN (in), 15 OSC2/CLKOUT (out), 16 RC0/T1OSO/T1CKI (io), 17 NC, 18 RC1/T1OSI/CCP2 (io), 19 RC2/CCP1 (io), 20 VUSB (power), 21 RD0/PSP0 (io), 22 RD1/PSP1 (io), 23 RD2/PSP2 (io), 24 RD3/PSP3 (io), 25 D- (io), 26 D+ (io), 27 RC6/TX/CK (io), 28 NC, 29 RC7/RX/DT (io), 30 RD4/PSP4 (io), 31 RD5/PSP5 (io), 32 RD6/PSP6 (io), 33 RD7/PSP7 (io), 34 VSS (power), 35 VDD (power), 36 RB0/INT (io), 37 RB1 (io), 38 RB2 (io), 39 RB3 (io), 40 NC, 41 RB4 (io), 42 RB5 (io), 43 RB6 (io), 44 RB7 (io)

## PIC16C765-I/P
designator U?
8-Bit CMOS Microcontroller with USB, 8K (x14-Bit words) EPROM, 256 Bytes RAM, 33 I/O Pins, 40-Pin PDIP, 4.35 to 5.25V Supply Range, Industrial Temperature; Manufacturer: Microchip; PartNumber: PIC16C765-I/P; DatasheetVersion: revC, Mar-2002; PackageVersion: revBB, Aug-2009; PackageReference: PDIP600-P40; PackageDescription: 40-Lead Plastic Dual In-Line (P) - 600 mil Body [PDIP]; Supplier 1: Digi-Key; Supplier Part Number 1: PIC16C765-I/P-ND; Supplier 2: Farnell; Supplier Part Number 2: 9760156; Supplier 3: Newark; Supplier Part Number 3: 97K7308; Supplier 4: Newark; Supplier Part Number 4: 33C0962; Supplier 5: Mouser; Supplier Part Number 5: 579-PIC16C765-I/P; ComponentLink1Description: Manufacturer URL; ComponentLink1URL: http://www.microchip.com/; ComponentLink2Description: Datasheet; ComponentLink2URL: http://ww1.microchip.com/downloads/en/DeviceDoc/41124c.pdf; ComponentLink3Description: Package Specification; ComponentLink3URL: http://www.microchip.com/stellent/groups/techpub_sg/documents/packagingspec/en012702.pdf
footprint PDIP600-P40 (DIP, 40-Leads, Row Spacing 15.24mm, Pitch 2.54mm, Body 51.8x13.5mm)
pins: 1 ~{MCLR}/VPP (in), 2 RA0/AN0 (io), 3 RA1/AN1 (io), 4 RA2/AN2 (io), 5 RA3/AN3/VREF (io), 6 RA4/T0CKI (io), 7 RA5/AN4 (io), 8 RE0/RD/AN5 (io), 9 RE1/WR/AN6 (io), 10 RE2/CS/AN7 (io), 11 VDD (power), 12 VSS (power), 13 OSC1/CLKIN (in), 14 OSC2/CLKOUT (out), 15 RC0/T1OSO/T1CKI (io), 16 RC1/T1OSI/CCP2 (io), 17 RC2/CCP1 (io), 18 VUSB (power), 19 RD0/PSP0 (io), 20 RD1/PSP1 (io), 21 RD2/PSP2 (io), 22 RD3/PSP3 (io), 23 D- (io), 24 D+ (io), 25 RC6/TX/CK (io), 26 RC7/RX/DT (io), 27 RD4/PSP4 (io), 28 RD5/PSP5 (io), 29 RD6/PSP6 (io), 30 RD7/PSP7 (io), 31 VSS (power), 32 VDD (power), 33 RB0/INT (io), 34 RB1 (io), 35 RB2 (io), 36 RB3 (io), 37 RB4 (io), 38 RB5 (io), 39 RB6 (io), 40 RB7 (io)

## PIC16C765-I/PT
designator U?
8-Bit CMOS Microcontroller with USB, 8K (x14-Bit words) EPROM, 256 Bytes RAM, 33 I/O Pins, 44-Pin TQFP, 4.35 to 5.25V Supply Range, Industrial Temperature; Manufacturer: Microchip; PartNumber: PIC16C765-I/PT; DatasheetVersion: revC, Mar-2002; PackageVersion: revBB, Aug-2009; PackageReference: TQFP-PT44; PackageDescription: 44-Lead Plastic Thin Quad Flatpack (PT) - 10x10x1mm Body, 2.00mm [TQFP]; Supplier 1: Digi-Key; Supplier Part Number 1: PIC16C765-I/PT-ND; Supplier 2: Mouser; Supplier Part Number 2: 579-PIC16C765-I/PT; Code_JEDEC: MS-026; ComponentLink1Description: Manufacturer URL; ComponentLink1URL: http://www.microchip.com/; ComponentLink2Description: Datasheet; ComponentLink2URL: http://ww1.microchip.com/downloads/en/DeviceDoc/41124c.pdf; ComponentLink3Description: Package Specification; ComponentLink3URL: http://www.microchip.com/stellent/groups/techpub_sg/documents/packagingspec/en012702.pdf
footprint TQFP-PT44_N (Thin QFP, 44-Leads, Body 10x10mm, Pitch 0.8mm, IPC Medium Density)
footprint TQFP-PT44_L (Thin QFP, 44-Leads, Body 10x10mm, Pitch 0.8mm, IPC High Density)
footprint TQFP-PT44_M (Thin QFP, 44-Leads, Body 10x10mm, Pitch 0.8mm, IPC Low Density)
pins: 1 RC7/RX/DT (io), 2 RD4/PSP4 (io), 3 RD5/PSP5 (io), 4 RD6/PSP6 (io), 5 RD7/PSP7 (io), 6 VSS (power), 7 VDD (power), 8 RB0/INT (io), 9 RB1 (io), 10 RB2 (io), 11 RB3 (io), 12 NC, 13 NC, 14 RB4 (io), 15 RB5 (io), 16 RB6 (io), 17 RB7 (io), 18 ~{MCLR}/VPP (in), 19 RA0/AN0 (io), 20 RA1/AN1 (io), 21 RA2/AN2 (io), 22 RA3/AN3/VREF (io), 23 RA4/T0CKI (io), 24 RA5/AN4 (io), 25 RE0/RD/AN5 (io), 26 RE1/WR/AN6 (io), 27 RE2/CS/AN7 (io), 28 VDD (power), 29 VSS (power), 30 OSC1/CLKIN (in), 31 OSC2/CLKOUT (out), 32 RC0/T1OSO/T1CKI (io), 33 NC, 34 NC, 35 RC1/T1OSI/CCP2 (io), 36 RC2/CCP1 (io), 37 VUSB (power), 38 RD0/PSP0 (io), 39 RD1/PSP1 (io), 40 RD2/PSP2 (io), 41 RD3/PSP3 (io), 42 D- (io), 43 D+ (io), 44 RC6/TX/CK (io)

## PIC16C765/JW
designator U?
8-Bit CMOS Microcontroller with USB, 8K (x14-Bit words) EPROM, 256 Bytes RAM, 33 I/O Pins, 40-Pin CERDIP, UV Erasable, 4.35 to 5.25V Supply Range, Commercial Temperature; Manufacturer: Microchip; PartNumber: PIC16C765/JW; DatasheetVersion: revC, Mar-2002; PackageVersion: revBB, Aug-2009; PackageReference: CERDIP600-JW40; PackageDescription: 40-Lead Ceramic Dual In-Line with Window (JW) - .600" Body [CERDIP]; Supplier 1: Digi-Key; Supplier Part Number 1: PIC16C765/JW-ND; Supplier 2: Mouser; Supplier Part Number 2: 579-PIC16C765/JW; Code_JEDEC: MO-103; ComponentLink1Description: Manufacturer URL; ComponentLink1URL: http://www.microchip.com/; ComponentLink2Description: Datasheet; ComponentLink2URL: http://ww1.microchip.com/downloads/en/DeviceDoc/41124c.pdf; ComponentLink3Description: Package Specification; ComponentLink3URL: http://www.microchip.com/stellent/groups/techpub_sg/documents/packagingspec/en012702.pdf
footprint CERDIP600-JW40 (DIP, 40-Leads, Row Spacing 15.24mm, Pitch 2.54mm, Body 52.1x13.9mm, Window)
pins: 1 ~{MCLR}/VPP (in), 2 RA0/AN0 (io), 3 RA1/AN1 (io), 4 RA2/AN2 (io), 5 RA3/AN3/VREF (io), 6 RA4/T0CKI (io), 7 RA5/AN4 (io), 8 RE0/RD/AN5 (io), 9 RE1/WR/AN6 (io), 10 RE2/CS/AN7 (io), 11 VDD (power), 12 VSS (power), 13 OSC1/CLKIN (in), 14 OSC2/CLKOUT (out), 15 RC0/T1OSO/T1CKI (io), 16 RC1/T1OSI/CCP2 (io), 17 RC2/CCP1 (io), 18 VUSB (power), 19 RD0/PSP0 (io), 20 RD1/PSP1 (io), 21 RD2/PSP2 (io), 22 RD3/PSP3 (io), 23 D- (io), 24 D+ (io), 25 RC6/TX/CK (io), 26 RC7/RX/DT (io), 27 RD4/PSP4 (io), 28 RD5/PSP5 (io), 29 RD6/PSP6 (io), 30 RD7/PSP7 (io), 31 VSS (power), 32 VDD (power), 33 RB0/INT (io), 34 RB1 (io), 35 RB2 (io), 36 RB3 (io), 37 RB4 (io), 38 RB5 (io), 39 RB6 (io), 40 RB7 (io)

## PIC16C765T-I/PT
designator U?
8-Bit CMOS Microcontroller with USB, 8K (x14-Bit words) EPROM, 256 Bytes RAM, 33 I/O Pins, 44-Pin TQFP, 4.35 to 5.25V Supply Range, Industrial Temperature, Tape and Reel; Manufacturer: Microchip; PartNumber: PIC16C765T-I/PT; DatasheetVersion: revC, Mar-2002; PackageVersion: revBB, Aug-2009; PackageReference: TQFP-PT44; PackageDescription: 44-Lead Plastic Thin Quad Flatpack (PT) - 10x10x1mm Body, 2.00mm [TQFP]; Supplier 1: Digi-Key; Supplier Part Number 1: PIC16C765T-I/PT-ND; Supplier 2: Mouser; Supplier Part Number 2: 579-PIC16C765T-I/PT; Code_JEDEC: MS-026; ComponentLink1Description: Manufacturer URL; ComponentLink1URL: http://www.microchip.com/; ComponentLink2Description: Datasheet; ComponentLink2URL: http://ww1.microchip.com/downloads/en/DeviceDoc/41124c.pdf; ComponentLink3Description: Package Specification; ComponentLink3URL: http://www.microchip.com/stellent/groups/techpub_sg/documents/packagingspec/en012702.pdf
footprint TQFP-PT44_N (Thin QFP, 44-Leads, Body 10x10mm, Pitch 0.8mm, IPC Medium Density)
footprint TQFP-PT44_L (Thin QFP, 44-Leads, Body 10x10mm, Pitch 0.8mm, IPC High Density)
footprint TQFP-PT44_M (Thin QFP, 44-Leads, Body 10x10mm, Pitch 0.8mm, IPC Low Density)
pins: 1 RC7/RX/DT (io), 2 RD4/PSP4 (io), 3 RD5/PSP5 (io), 4 RD6/PSP6 (io), 5 RD7/PSP7 (io), 6 VSS (power), 7 VDD (power), 8 RB0/INT (io), 9 RB1 (io), 10 RB2 (io), 11 RB3 (io), 12 NC, 13 NC, 14 RB4 (io), 15 RB5 (io), 16 RB6 (io), 17 RB7 (io), 18 ~{MCLR}/VPP (in), 19 RA0/AN0 (io), 20 RA1/AN1 (io), 21 RA2/AN2 (io), 22 RA3/AN3/VREF (io), 23 RA4/T0CKI (io), 24 RA5/AN4 (io), 25 RE0/RD/AN5 (io), 26 RE1/WR/AN6 (io), 27 RE2/CS/AN7 (io), 28 VDD (power), 29 VSS (power), 30 OSC1/CLKIN (in), 31 OSC2/CLKOUT (out), 32 RC0/T1OSO/T1CKI (io), 33 NC, 34 NC, 35 RC1/T1OSI/CCP2 (io), 36 RC2/CCP1 (io), 37 VUSB (power), 38 RD0/PSP0 (io), 39 RD1/PSP1 (io), 40 RD2/PSP2 (io), 41 RD3/PSP3 (io), 42 D- (io), 43 D+ (io), 44 RC6/TX/CK (io)

## PIC16C770-E/SS
designator U?
8-Bit CMOS Microcontroller with 12-Bit A/D, 2K (x14-Bit words) EPROM, 256 Bytes RAM, 20-Pin SSOP, 4.0 to 5.5V Supply Range, Extended Temperature; Manufacturer: Microchip; PartNumber: PIC16C770-E/SS; DatasheetVersion: revB, Feb-2002; PackageVersion: revBB, Aug-2009; PackageReference: SSOP-SS20; PackageDescription: 20-Lead Plastic Shrink Small Outline (SS) - 5.3mm Body [SSOP]; Supplier 1: Digi-Key; Supplier Part Number 1: PIC16C770-E/SS-ND; Supplier 2: Mouser; Supplier Part Number 2: 579-PIC16C770-E/SS; Code_JEDEC: MO-150; ComponentLink1Description: Manufacturer URL; ComponentLink1URL: http://www.microchip.com/; ComponentLink2Description: Datasheet; ComponentLink2URL: http://ww1.microchip.com/downloads/en/DeviceDoc/41120b.pdf; ComponentLink3Description: Package Specification; ComponentLink3URL: http://www.microchip.com/stellent/groups/techpub_sg/documents/packagingspec/en012702.pdf
footprint SSOP-SS20_N (SOP, 20-Leads, Body 7.2x5.2mm, Pitch 0.65mm, IPC Medium Density)
footprint SSOP-SS20_L (SOP, 20-Leads, Body 7.2x5.2mm, Pitch 0.65mm, IPC High Density)
footprint SSOP-SS20_M (SOP, 20-Leads, Body 7.2x5.2mm, Pitch 0.65mm, IPC Low Density)
pins: 1 RA0/AN0 (io), 2 RA1/AN1/LVDIN (io), 3 RA4/T0CKI (io), 4 RA5/~{MCLR}/VPP (io), 5 VSS (power), 6 AVSS (power), 7 RA2/AN2/VREF-/VRL (io), 8 RA3/AN3/VREF+/VRH (io), 9 RB0/AN4/INT (io), 10 RB1/AN5/~{SS} (io), 11 RB4/SDI/SDA (io), 12 RB5/SDO/P1B (io), 13 RB6/T1OSO/T1CKI/P1C (io), 14 RB7/T1OSI/P1D (io), 15 AVDD (power), 16 VDD (power), 17 RA6/OSC2/CLKOUT (io), 18 RA7/OSC1/CLKIN (io), 19 RB2/SCK/SCL (io), 20 RB3/CCP1/P1A (io)

## PIC16C770-I/P
designator U?
8-Bit CMOS Microcontroller with 12-Bit A/D, 2K (x14-Bit words) EPROM, 256 Bytes RAM, 20-Pin PDIP, 4.0 to 5.5V Supply Range, Industrial Temperature; Manufacturer: Microchip; PartNumber: PIC16C770-I/P; DatasheetVersion: revB, Feb-2002; PackageVersion: revBB, Aug-2009; PackageReference: PDIP300-P20; PackageDescription: 20-Lead Plastic Dual In-Line (P) - 300 mil Body [PDIP]; Supplier 1: Digi-Key; Supplier Part Number 1: PIC16C770-I/P-ND; Supplier 2: Farnell; Supplier Part Number 2: 1137322; Supplier 3: Newark; Supplier Part Number 3: 22M4027; Supplier 4: Newark; Supplier Part Number 4: 19C7266; Supplier 5: Mouser; Supplier Part Number 5: 579-PIC16C770-I/P; ComponentLink1Description: Manufacturer URL; ComponentLink1URL: http://www.microchip.com/; ComponentLink2Description: Datasheet; ComponentLink2URL: http://ww1.microchip.com/downloads/en/DeviceDoc/41120b.pdf; ComponentLink3Description: Package Specification; ComponentLink3URL: http://www.microchip.com/stellent/groups/techpub_sg/documents/packagingspec/en012702.pdf
footprint PDIP300-P20 (DIP, 20-Leads, Row Spacing 7.62mm, Pitch 2.54mm, Body 25.9x6.6mm)
pins: 1 RA0/AN0 (io), 2 RA1/AN1/LVDIN (io), 3 RA4/T0CKI (io), 4 RA5/~{MCLR}/VPP (io), 5 VSS (power), 6 AVSS (power), 7 RA2/AN2/VREF-/VRL (io), 8 RA3/AN3/VREF+/VRH (io), 9 RB0/AN4/INT (io), 10 RB1/AN5/~{SS} (io), 11 RB4/SDI/SDA (io), 12 RB5/SDO/P1B (io), 13 RB6/T1OSO/T1CKI/P1C (io), 14 RB7/T1OSI/P1D (io), 15 AVDD (power), 16 VDD (power), 17 RA6/OSC2/CLKOUT (io), 18 RA7/OSC1/CLKIN (io), 19 RB2/SCK/SCL (io), 20 RB3/CCP1/P1A (io)

## PIC16C770-I/SO
designator U?
8-Bit CMOS Microcontroller with 12-Bit A/D, 2K (x14-Bit words) EPROM, 256 Bytes RAM, 20-Pin SOIC, 4.0 to 5.5V Supply Range, Industrial Temperature; Manufacturer: Microchip; PartNumber: PIC16C770-I/SO; DatasheetVersion: revB, Feb-2002; PackageVersion: revBB, Aug-2009; PackageReference: SOIC-SO20; PackageDescription: 20-Lead Plastic Small Outline (SO) - Wide 7.50mm Body [SOIC]; Supplier 1: Digi-Key; Supplier Part Number 1: PIC16C770-I/SO-ND; Supplier 2: Newark; Supplier Part Number 2: 19C7267; Supplier 3: Mouser; Supplier Part Number 3: 579-PIC16C770-I/SO; Code_JEDEC: MS-013-AC; Code_IPC: SOIC127P1030-20; ComponentLink1Description: Manufacturer URL; ComponentLink1URL: http://www.microchip.com/; ComponentLink2Description: Datasheet; ComponentLink2URL: http://ww1.microchip.com/downloads/en/DeviceDoc/41120b.pdf; ComponentLink3Description: Package Specification; ComponentLink3URL: http://www.microchip.com/stellent/groups/techpub_sg/documents/packagingspec/en012702.pdf
footprint SOIC-SO20_N (SOIC, 20-Leads, Body 12.8x7.5mm, Pitch 1.27mm, IPC Medium Density)
footprint SOIC-SO20_L (SOIC, 20-Leads, Body 12.8x7.5mm, Pitch 1.27mm, IPC High Density)
footprint SOIC-SO20_M (SOIC, 20-Leads, Body 12.8x7.5mm, Pitch 1.27mm, IPC Low Density)
pins: 1 RA0/AN0 (io), 2 RA1/AN1/LVDIN (io), 3 RA4/T0CKI (io), 4 RA5/~{MCLR}/VPP (io), 5 VSS (power), 6 AVSS (power), 7 RA2/AN2/VREF-/VRL (io), 8 RA3/AN3/VREF+/VRH (io), 9 RB0/AN4/INT (io), 10 RB1/AN5/~{SS} (io), 11 RB4/SDI/SDA (io), 12 RB5/SDO/P1B (io), 13 RB6/T1OSO/T1CKI/P1C (io), 14 RB7/T1OSI/P1D (io), 15 AVDD (power), 16 VDD (power), 17 RA6/OSC2/CLKOUT (io), 18 RA7/OSC1/CLKIN (io), 19 RB2/SCK/SCL (io), 20 RB3/CCP1/P1A (io)

## PIC16C770-I/SS
designator U?
8-Bit CMOS Microcontroller with 12-Bit A/D, 2K (x14-Bit words) EPROM, 256 Bytes RAM, 20-Pin SSOP, 4.0 to 5.5V Supply Range, Industrial Temperature; Manufacturer: Microchip; PartNumber: PIC16C770-I/SS; DatasheetVersion: revB, Feb-2002; PackageVersion: revBB, Aug-2009; PackageReference: SSOP-SS20; PackageDescription: 20-Lead Plastic Shrink Small Outline (SS) - 5.3mm Body [SSOP]; Supplier 1: Digi-Key; Supplier Part Number 1: PIC16C770-I/SS-ND; Supplier 2: Mouser; Supplier Part Number 2: 579-PIC16C770-I/SS; Code_JEDEC: MO-150; ComponentLink1Description: Manufacturer URL; ComponentLink1URL: http://www.microchip.com/; ComponentLink2Description: Datasheet; ComponentLink2URL: http://ww1.microchip.com/downloads/en/DeviceDoc/41120b.pdf; ComponentLink3Description: Package Specification; ComponentLink3URL: http://www.microchip.com/stellent/groups/techpub_sg/documents/packagingspec/en012702.pdf
footprint SSOP-SS20_N (SOP, 20-Leads, Body 7.2x5.2mm, Pitch 0.65mm, IPC Medium Density)
footprint SSOP-SS20_L (SOP, 20-Leads, Body 7.2x5.2mm, Pitch 0.65mm, IPC High Density)
footprint SSOP-SS20_M (SOP, 20-Leads, Body 7.2x5.2mm, Pitch 0.65mm, IPC Low Density)
pins: 1 RA0/AN0 (io), 2 RA1/AN1/LVDIN (io), 3 RA4/T0CKI (io), 4 RA5/~{MCLR}/VPP (io), 5 VSS (power), 6 AVSS (power), 7 RA2/AN2/VREF-/VRL (io), 8 RA3/AN3/VREF+/VRH (io), 9 RB0/AN4/INT (io), 10 RB1/AN5/~{SS} (io), 11 RB4/SDI/SDA (io), 12 RB5/SDO/P1B (io), 13 RB6/T1OSO/T1CKI/P1C (io), 14 RB7/T1OSI/P1D (io), 15 AVDD (power), 16 VDD (power), 17 RA6/OSC2/CLKOUT (io), 18 RA7/OSC1/CLKIN (io), 19 RB2/SCK/SCL (io), 20 RB3/CCP1/P1A (io)